# EAGLE library part AT32UC3C (library IRIS)
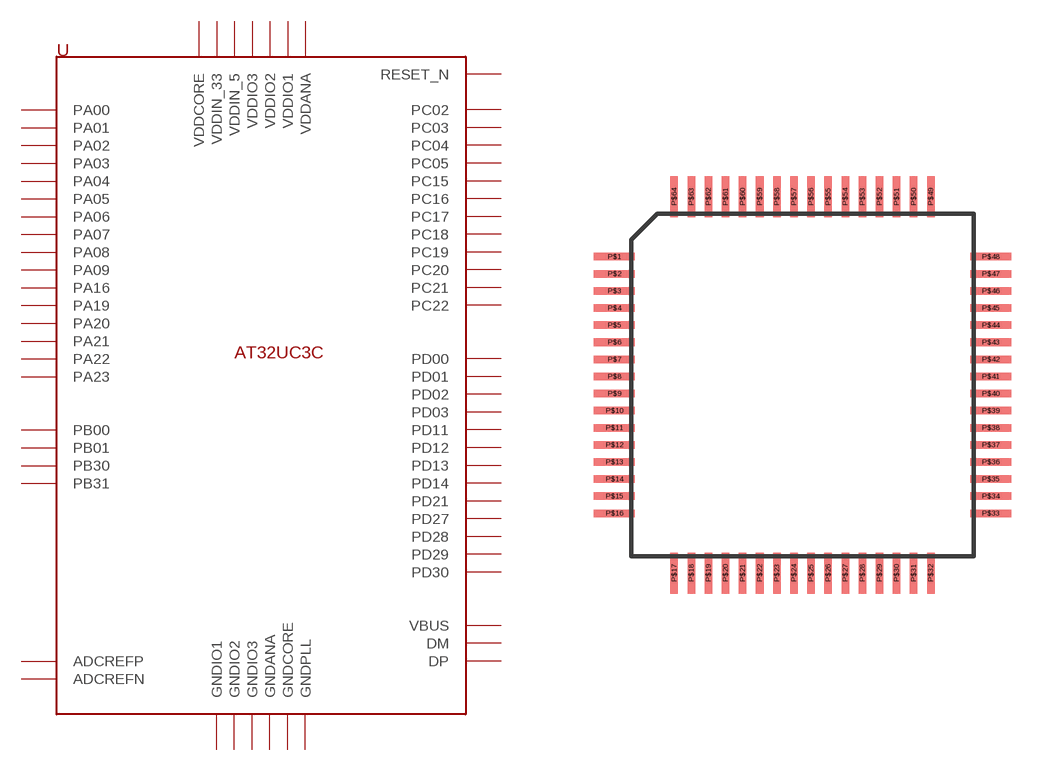
[diagram p1: symbol with the pads of TQFP64; footprint TQFP64]

Designator prefix -

## AT32UC3C  [TQFP64]
P$1  PA00
P$2  PA01
P$3  PA02
P$4  PA03
P$5  VDDIO1
P$6  GNDIO1
P$7  PA04
P$8  PA05
P$9  PA06
P$10  PA07
P$11  PA08
P$12  PA09
P$13  PA16
P$14  ADCREFP
P$15  ADCREFN
P$16  PA19
P$17  GNDANA
P$18  VDDANA
P$19  PA20
P$20  PA21
P$21  PA22
P$22  PA23
P$23  VBUS
P$24  DM
P$25  DP
P$26  GNDPLL
P$27  VDDIN_5
P$28  VDDIN_33
P$29  VDDCORE
P$30  GNDCORE
P$31  PB30
P$32  PB31
P$33  PC02
P$34  PC03
P$35  VDDIO2
P$36  GNDIO2
P$37  PC04
P$38  PC05
P$39  PC15
P$40  PC16
P$41  PC17
P$42  PC18
P$43  PC19
P$44  PC20
P$45  PC21
P$46  PC22
P$47  PD00
P$48  PD01
P$49  PD02
P$50  PD03
P$51  VDDIO3
P$52  GNDIO3
P$53  PD11
P$54  PD12
P$55  PD13
P$56  PD14
P$57  PD21
P$58  PD27
P$59  PD28
P$60  PD29
P$61  PD30
P$62  PB00
P$63  PB01
P$64  RESET_N

## Footprint TQFP64 (pad centres in mm)
Thin Plasic Quad Flat Package Updated from atml.lbr 17.01.2005 alf@cadsoft.de
smd 1.2 x 0.22: P$1 -5.5,3.75; P$2 -5.5,3.25; P$3 -5.5,2.75; P$4 -5.5,2.25; P$5 -5.5,1.75; P$6 -5.5,1.25; P$7 -5.5,0.75; P$8 -5.5,0.25; P$9 -5.5,-0.25; P$10 -5.5,-0.75; P$11 -5.5,-1.25; P$12 -5.5,-1.75; P$13 -5.5,-2.25; P$14 -5.5,-2.75; P$15 -5.5,-3.25; P$16 -5.5,-3.75; P$33 5.5,-3.75; P$34 5.5,-3.25; P$35 5.5,-2.75; P$36 5.5,-2.25; P$37 5.5,-1.75; P$38 5.5,-1.25; P$39 5.5,-0.75; P$40 5.5,-0.25; P$41 5.5,0.25; P$42 5.5,0.75; P$43 5.5,1.25; P$44 5.5,1.75; P$45 5.5,2.25; P$46 5.5,2.75; P$47 5.5,3.25; P$48 5.5,3.75
smd 0.22 x 1.2: P$17 -3.75,-5.5; P$18 -3.25,-5.5; P$19 -2.75,-5.5; P$20 -2.25,-5.5; P$21 -1.75,-5.5; P$22 -1.25,-5.5; P$23 -0.75,-5.5; P$24 -0.25,-5.5; P$25 0.25,-5.5; P$26 0.75,-5.5; P$27 1.25,-5.5; P$28 1.75,-5.5; P$29 2.25,-5.5; P$30 2.75,-5.5; P$31 3.25,-5.5; P$32 3.75,-5.5; P$49 3.75,5.5; P$50 3.25,5.5; P$51 2.75,5.5; P$52 2.25,5.5; P$53 1.75,5.5; P$54 1.25,5.5; P$55 0.75,5.5; P$56 0.25,5.5; P$57 -0.25,5.5; P$58 -0.75,5.5; P$59 -1.25,5.5; P$60 -1.75,5.5; P$61 -2.25,5.5; P$62 -2.75,5.5; P$63 -3.25,5.5; P$64 -3.75,5.5